# EAGLE library part REF6025 (library REF6025)
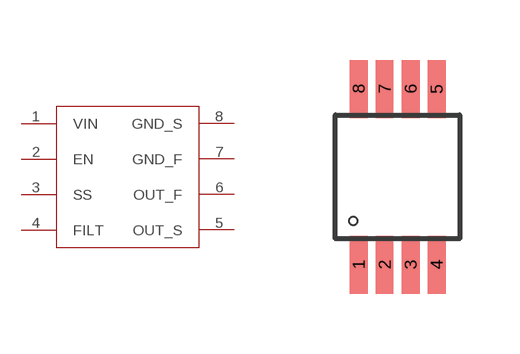
[diagram p0: symbol with the pads of REF6025; footprint REF6025]

Designator prefix -

## REF6025  [REF6025]
1  VIN
2  EN
3  SS
4  FILT
5  OUT_S
6  OUT_F
7  GND_F
8  GND_S

## Footprint REF6025 (pad centres in mm)
smd 0.45 x 1.45: 1 -0.975,-2.2; 2 -0.325,-2.2; 3 0.325,-2.2; 4 0.975,-2.2; 5 0.975,2.2; 6 0.325,2.2; 7 -0.325,2.2; 8 -0.975,2.2